# Altium schematic symbol library 220VAC-12.SchLib: 1 symbol
Pins are listed as number, name and electrical type; pins without a type are passive.

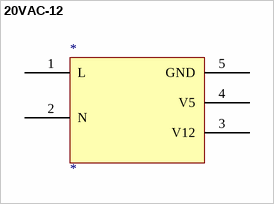
[diagram p0: symbol 20VAC-12]

## 20VAC-12
designator *
pins: 1 L, 2 N, 3 V12, 4 V5, 5 GND